# Altium schematic symbol library Schlib1.SchLib: 1 symbol
Pins are listed as number, name and electrical type; pins without a type are passive.

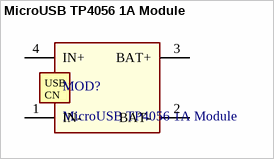
[diagram p0: symbol MicroUSB TP4056 1A Module]

## MicroUSB TP4056 1A Module
designator MOD?
Micro USB TP4056-based 1A LiPo charging module
footprint MicroUSB TP4056 1A Module Top PCB Mount, no holes (MicroUSB TP4056 1A Module Mounted on the top/bottom of the PCB, no holes)
footprint MicroUSB TP4056 1A Module Top PCB Mount, with holes (MicroUSB TP4056 1A Module Mounted on the top/bottom of the PCB, with holes)
pins: 1 IN-, 2 BAT-, 3 BAT+, 4 IN+
text: USB CN